# EAGLE library part IC_BUFF_SN74LVC8T245 (library dp_devices)
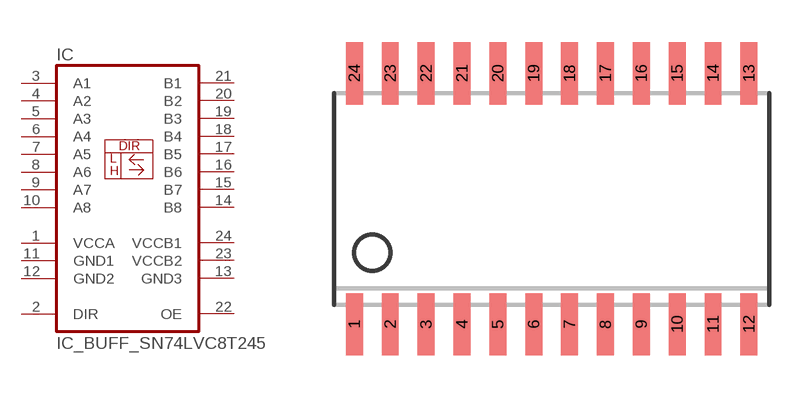
[diagram p28: symbol with the pads of SOIC-24; footprint SOIC-24]

Designator prefix IC

## IC_BUFF_SN74LVC8T245  [SOIC-24]
1  VCCA  pwr
2  DIR  in
3  A1
4  A2
5  A3
6  A4
7  A5
8  A6
9  A7
10  A8
11  GND1  pwr
12  GND2  pwr
13  GND3  pwr
14  B8
15  B7
16  B6
17  B5
18  B4
19  B3
20  B2
21  B1
22  OE  in
23  VCCB2  pwr
24  VCCB1  pwr

## Footprint SOIC-24 (pad centres in mm)
smd 0.6 x 2.2: 1 -6.985,-4.445; 2 -5.715,-4.445; 3 -4.445,-4.445; 4 -3.175,-4.445; 5 -1.905,-4.445; 6 -0.635,-4.445; 7 0.635,-4.445; 8 1.905,-4.445; 9 3.175,-4.445; 10 4.445,-4.445; 11 5.715,-4.445; 12 6.985,-4.445; 13 6.985,4.445; 14 5.715,4.445; 15 4.445,4.445; 16 3.175,4.445; 17 1.905,4.445; 18 0.635,4.445; 19 -0.635,4.445; 20 -1.905,4.445; 21 -3.175,4.445; 22 -4.445,4.445; 23 -5.715,4.445; 24 -6.985,4.445